# Altium integrated library FAN.IntLib: 1 symbol
Pins are listed as number, name and electrical type; pins without a type are passive.

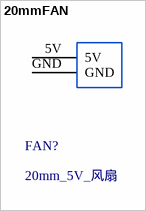
[diagram p0: symbol 20mmFAN]

## 20mmFAN
designator FAN?, comment 20mm_5V_风扇
footprint 20mmFAN (20mm_5V_风扇); pin to pad 5V>7 GND>6
pins: 5V, GND